# EAGLE library part 87520-0010BLF (library BeagleBone_Blue)
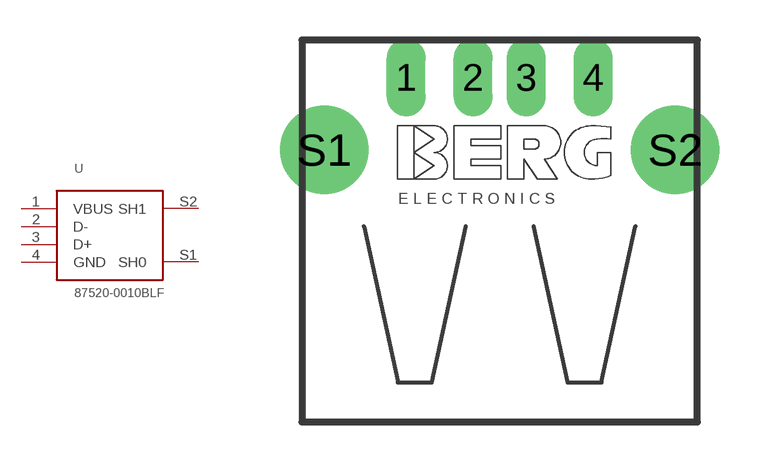
[diagram p5: symbol with the pads of 87520-0010BLF; footprint 87520-0010BLF]

Designator prefix -

## 87520-0010BLF  [87520-0010BLF]
1  VBUS
2  D-
3  D+
4  GND
S1  SH0
S2  SH1

## Footprint 87520-0010BLF (pad centres in mm)
drill 0.95 long: 1 -3.5,6.266; 2 -1,6.266; 3 1,6.266; 4 3.5,6.266
drill 2.3 pad 2.9: S1 -6.57,3.556; S2 6.57,3.556